# Altium schematic symbol library Schematics.SchLib: 2 symbols
Pins are listed as number, name and electrical type; pins without a type are passive.

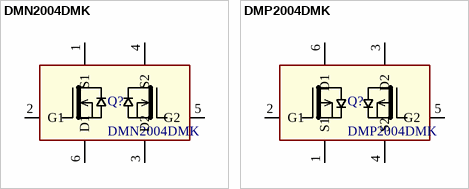
[diagram p0: symbols DMN2004DMK to DMP2004DMK]

## DMN2004DMK
designator Q?
N-channel transistor pair
footprint SOT-23-6 (SOT-23-6 package)
footprint LC-SOT-23-6
pins: 1 S1, 1 G, 2 G1, 2 G, 3 D2, 4 S2, 5 G2, 6 D1

## DMP2004DMK
designator Q?
P-channel transistor pair
footprint SOT-23-6 (SOT-23-6 package)
footprint LC-SOT-23-6
pins: 1 S1, 1 G, 2 G1, 2 G, 3 D2, 4 S2, 5 G2, 6 D1